# Altium integrated library Components - 30.01.24 - 15.03.IntLib: 1 symbol
Pins are listed as number, name and electrical type; pins without a type are passive.

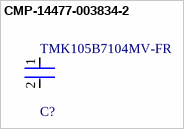
[diagram p0: symbol CMP-14477-003834-2]

## CMP-14477-003834-2
designator C?, comment TMK105B7104MV-FR
None; Capacitance: 100nF; Voltage Rating: 25V; Tolerance: 20%; Min Operating Temperature: -55°C; Max Operating Temperature: 125°C; Mount: Surface Mount; RoHS Compliant: Yes; Case/Package: 0402; Packaging: Tape and Reel
footprint FP-0402-L_1_0_0_05-W_0_5-IPC_A
footprint FP-0402-L_1_0_0_05-W_0_5-MFG
footprint FP-0402-L_1_0_0_05-W_0_5-IPC_B
footprint FP-0402-L_1_0_0_05-W_0_5-IPC_C
pins: 1, 2